# EAGLE library part RFM95W-3072 (library RoboJackets-Boards)
Adafruit Breakout Board for RFM95W Radio Module Datasheet <https://cdn-learn.adafruit.com/downloads/pdf/adafruit-rfm69hcw-and-rfm96-rfm95-rfm98-lora-packet-padio-breakouts.pdf>
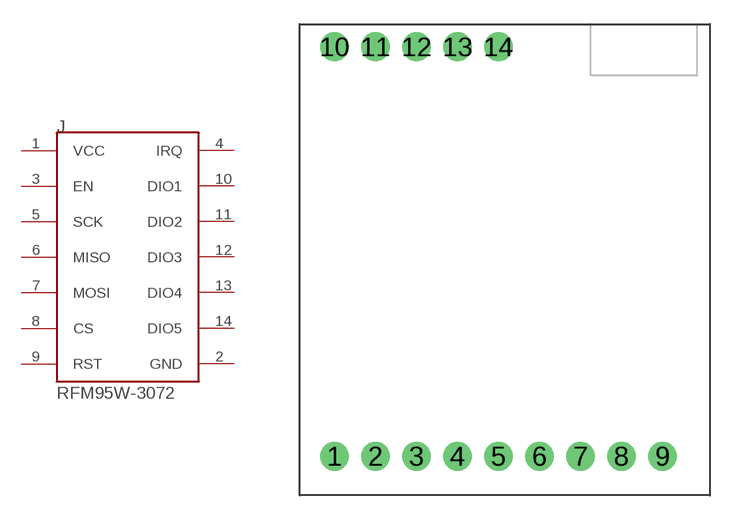
[diagram p6: symbol with the pads of RFM95W-3072; footprint RFM95W-3072]

Designator prefix J

## RFM95W-3072 (DKPN: 1528-1667-ND)  [RFM95W-3072]
1  VCC  pas
2  GND  pas
3  EN  pas
4  IRQ  pas
5  SCK  pas
6  MISO  pas
7  MOSI  pas
8  CS  pas
9  RST  pas
10  DIO1
11  DIO2
12  DIO3
13  DIO4
14  DIO5

## Footprint RFM95W-3072 (pad centres in mm)
drill 1 pad 1.778: 1 -10.541,-12.192; 2 -8.001,-12.192; 3 -5.461,-12.192; 4 -2.921,-12.192; 5 -0.381,-12.192; 6 2.159,-12.192; 7 4.699,-12.192; 8 7.239,-12.192; 9 9.779,-12.192; 10 -10.541,13.208; 11 -8.001,13.208; 12 -5.461,13.208; 13 -2.921,13.208; 14 -0.381,13.208